# Altium integrated library Silicon Labs Isolation and Power.IntLib: 421 symbols (part 5 of 19)
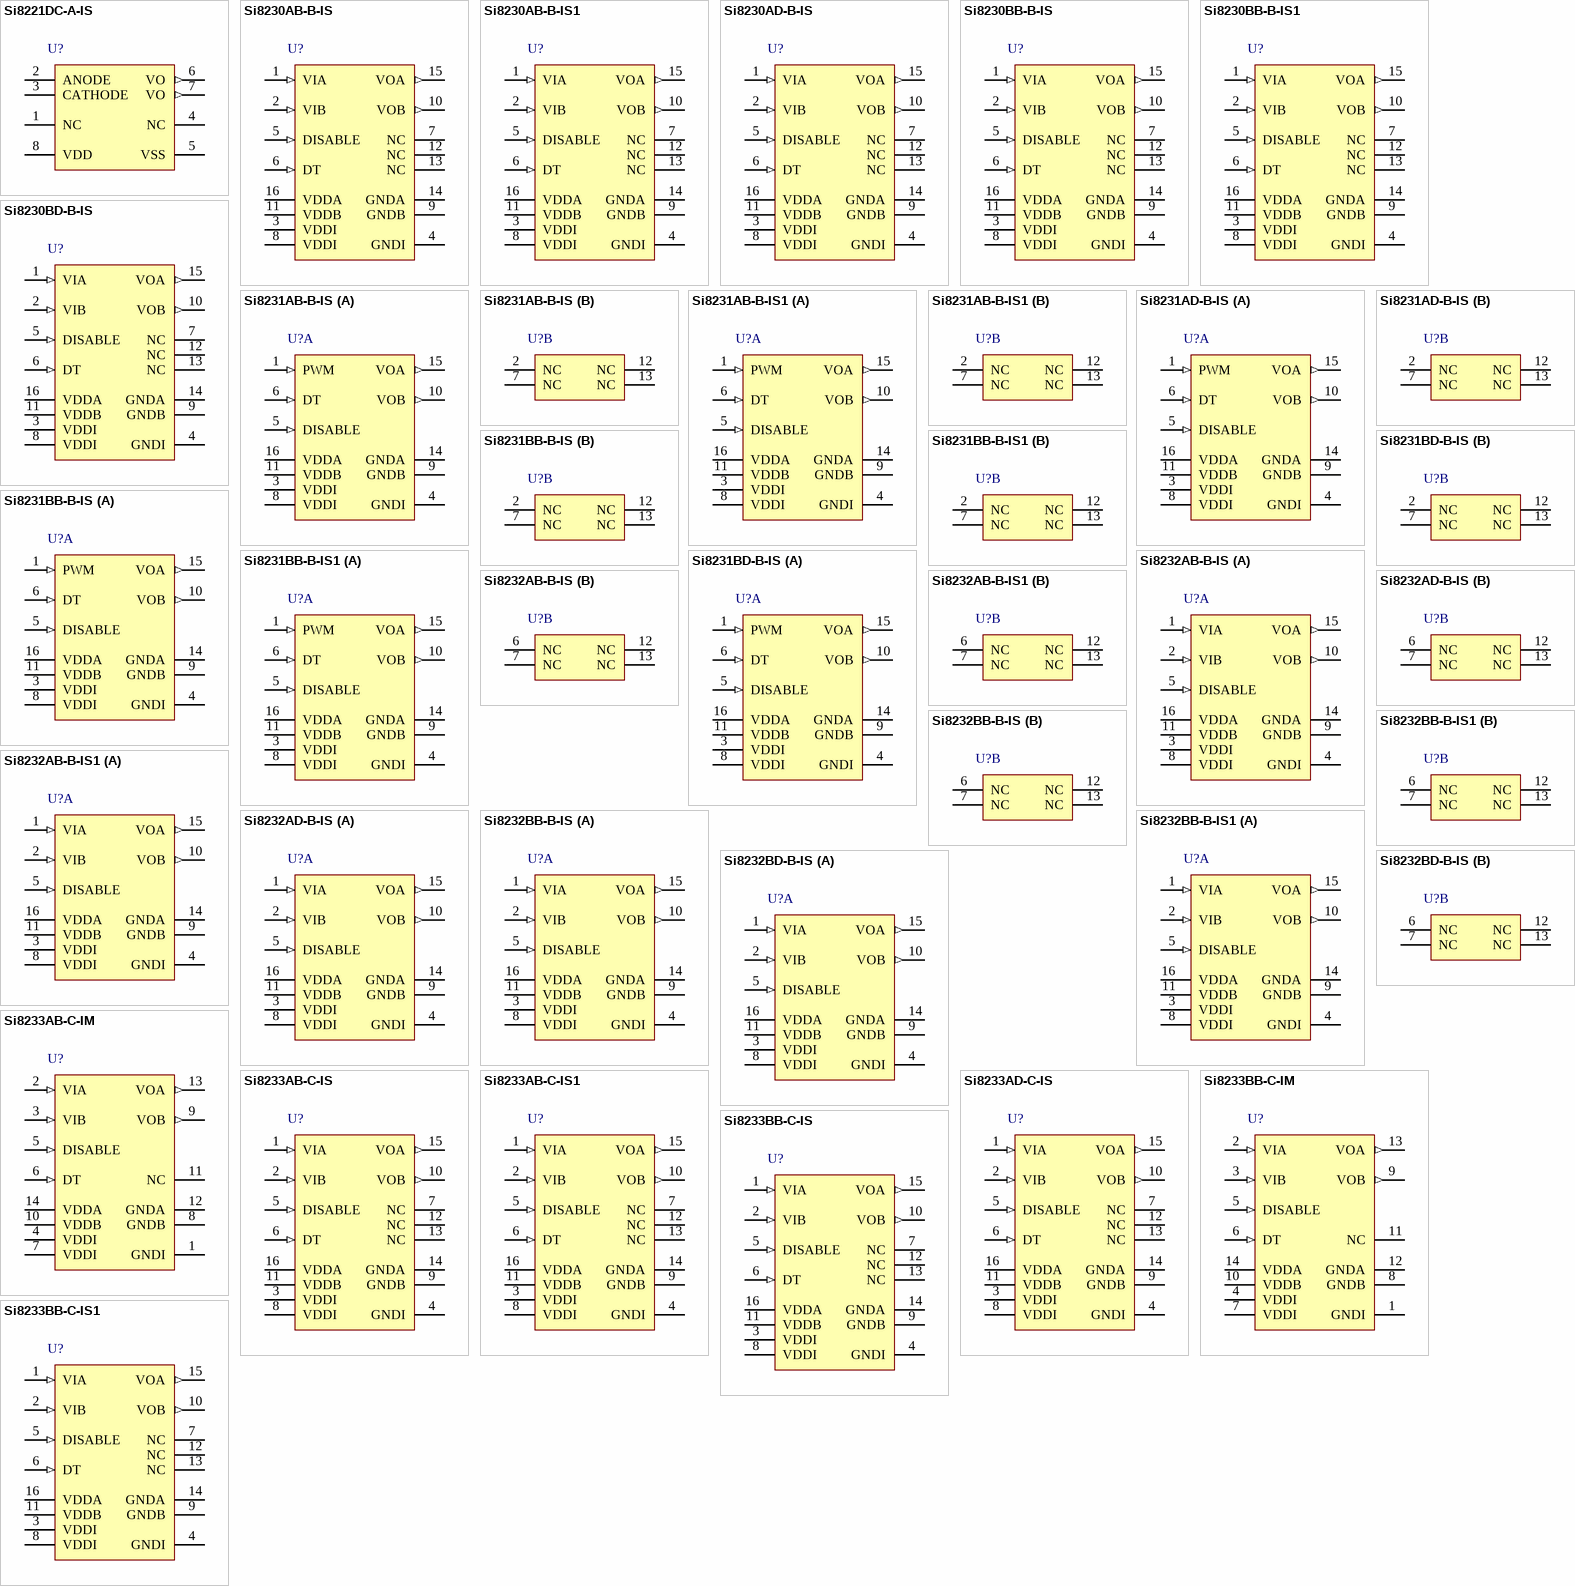
[diagram p18: symbols Si8221DC-A-IS to Si8233BB-C-IS1]

## Si8232BB-B-IS1
designator U?
0.5 A ISOdrivers, 6.5 to 24 V Driver Supply, 2.5 kVRMS Isolation Rating, -40 to 125 degC, 16-pin SOIC; Manufacturer: Silicon Labs; PartNumber: Si8232BB-B-IS1; 10kV surge: FALSE; Input Supply: 4.5 to 5.5 V; Isolation Rating (Input-Output, kVrms): 2.5; Max. Prop. Delay (ns): 60; UVLO Voltage: 8 V; DatasheetVersion: Rev. 1.4; PackageReference: SOIC-16-NB; PackageDescription: 16-Pin Small-Outline Integrated Circuit, Body 9.9 x 3.9 mm, Pitch 1.27 mm; Supplier 1: Digi-Key; Supplier Part Number 1: 336-1909-5-ND; Supplier 2: Mouser; Supplier Part Number 2: 634-SI8232BB-B-IS1; Driver Supply: 6.5 to 24 V; Input VDD: 4.5 to 5.5 V; Overlap Protection & Dead Time Control: FALSE; Sub-Family: ISOdrivers; Mounting Technology: Surface Mount; Code_JEDEC: MS-012; Code_IPC: J-STD-020; ComponentLink1Description: Manufacturer URL; ComponentLink1URL: http://www.silabs.com/; ComponentLink2Description: Datasheet; ComponentLink2URL: https://www.silabs.com/Support%20Documents/TechnicalDocs/Si823x.pdf; ComponentLink3Description: Package Specification; ComponentLink3URL: http://www.silabs.com/Support%20Documents/TechnicalDocs/si2401.pdf
footprint SLAB-SOIC-16-NB_N (SOIC, 16-Leads, Body 9.9x3.9mm, Pitch 1.27mm, IPC Medium Density)
footprint SLAB-SOIC-16-NB_L (SOIC, 16-Leads, Body 9.9x3.9mm, Pitch 1.27mm, IPC High Density)
footprint SLAB-SOIC-16-NB_M (SOIC, 16-Leads, Body 9.9x3.9mm, Pitch 1.27mm, IPC Low Density)
part A pins: 1 VIA (in) "Non-inverting logic input terminal for Driver A.", 2 VIB (in) "Non-inverting logic input terminal for Driver B.", 3 VDDI (power) "Input-side power supply terminal; connect to a source of 4.5 to 5.5 V.", 4 GNDI (power) "Input-side ground terminal.", 5 DISABLE (in) "Device Disable. When high, this input unconditionally drives outputs VOA, VOB LOW. It is strongly recommended that this input be connected to external logic level to avoid erroneous operation due to capacitive noise coupling.", 8 VDDI (power) "Input-side power supply terminal; connect to a source of 4.5 to 5.5 V.", 9 GNDB (power) "Ground terminal for Driver B.", 10 VOB (out) "Driver B output", 11 VDDB (power) "Driver B power supply voltage terminal; connect to a source of 6.5 to 24 V.", 14 GNDA (power) "Ground terminal for Driver A.", 15 VOA (out) "Driver A output", 16 VDDA (power) "Driver A power supply voltage terminal; connect to a source of 6.5 to 24 V."
part B pins: 6 NC "No connection.", 7 NC "No connection.", 12 NC "No connection.", 13 NC "No connection."

## Si8232BD-B-IS
designator U?
0.5 A ISOdrivers, 6.5 to 24 V Driver Supply, 5 kVRMS Isolation Rating, -40 to 125 degC, 16-pin SOIC; Manufacturer: Silicon Labs; PartNumber: Si8232BD-B-IS; 10kV surge: FALSE; Input Supply: 4.5 to 5.5 V; Isolation Rating (Input-Output, kVrms): 5; Max. Prop. Delay (ns): 60; UVLO Voltage: 8 V; DatasheetVersion: Rev. 1.4; PackageReference: SOIC-16-WB; PackageDescription: 16-Pin Wide Body Plastic Small Outline, Body 10.3 x 7.5 mm, Pitch 1.27 mm; Supplier 1: Digi-Key; Supplier Part Number 1: 336-1908-5-ND; Supplier 2: Mouser; Supplier Part Number 2: 634-SI8232BD-B-IS; Driver Supply: 6.5 to 24 V; Input VDD: 4.5 to 5.5 V; Overlap Protection & Dead Time Control: FALSE; Sub-Family: ISOdrivers; Mounting Technology: Surface Mount; Code_JEDEC: MS-013; ComponentLink1Description: Manufacturer URL; ComponentLink1URL: http://www.silabs.com/; ComponentLink2Description: Datasheet; ComponentLink2URL: https://www.silabs.com/Support%20Documents/TechnicalDocs/Si823x.pdf; ComponentLink3Description: Package Specification; ComponentLink3URL: https://www.silabs.com/Support%20Documents/TechnicalDocs/Si823x.pdf
footprint SLAB-SOIC-16-WB_N (SOIC, 16-Leads, Body 10.3x7.5mm, Pitch 1.27mm, IPC Medium Density)
footprint SLAB-SOIC-16-WB_L (SOIC, 16-Leads, Body 10.3x7.5mm, Pitch 1.27mm, IPC High Density)
footprint SLAB-SOIC-16-WB_M (SOIC, 16-Leads, Body 10.3x7.5mm, Pitch 1.27mm, IPC Low Density)
part A pins: 1 VIA (in) "Non-inverting logic input terminal for Driver A.", 2 VIB (in) "Non-inverting logic input terminal for Driver B.", 3 VDDI (power) "Input-side power supply terminal; connect to a source of 4.5 to 5.5 V.", 4 GNDI (power) "Input-side ground terminal.", 5 DISABLE (in) "Device Disable. When high, this input unconditionally drives outputs VOA, VOB LOW. It is strongly recommended that this input be connected to external logic level to avoid erroneous operation due to capacitive noise coupling.", 8 VDDI (power) "Input-side power supply terminal; connect to a source of 4.5 to 5.5 V.", 9 GNDB (power) "Ground terminal for Driver B.", 10 VOB (out) "Driver B output", 11 VDDB (power) "Driver B power supply voltage terminal; connect to a source of 6.5 to 24 V.", 14 GNDA (power) "Ground terminal for Driver A.", 15 VOA (out) "Driver A output", 16 VDDA (power) "Driver A power supply voltage terminal; connect to a source of 6.5 to 24 V."
part B pins: 6 NC "No connection.", 7 NC "No connection.", 12 NC "No connection.", 13 NC "No connection."

## Si8233AB-C-IM
designator U?
4 A ISOdrivers, 6.5 to 24 V Driver Supply, 2.5 kVRMS Isolation Rating, -40 to 125 degC, 14-pin LGA; Manufacturer: Silicon Labs; PartNumber: Si8233AB-C-IM; 10kV surge: FALSE; Input Supply: 4.5 to 5.5 V; Isolation Rating (Input-Output, kVrms): 2.5; Max. Prop. Delay (ns): 60; Overlap Protection & Dead Time Control: TRUE; UVLO Voltage: 5 V; DatasheetVersion: Rev. 1.4; PackageReference: LGA14; PackageDescription: 14-Pin Land Grid Array, Body 5 x 5 mm, Pitch 0.65 mm; Supplier 1: Digi-Key; Supplier Part Number 1: SI8233AB-C-IM-ND; Supplier 2: Mouser; Supplier Part Number 2: 634-SI8233AB-C-IM; Driver Supply: 6.5 to 24 V; Input VDD: 4.5 to 5.5 V; Sub-Family: ISOdrivers; Mounting Technology: Surface Mount; Code_IPC: J-STD-020; ComponentLink1Description: Manufacturer URL; ComponentLink1URL: http://www.silabs.com/; ComponentLink2Description: Datasheet; ComponentLink2URL: https://www.silabs.com/Support%20Documents/TechnicalDocs/Si823x.pdf; ComponentLink3Description: Package Specification; ComponentLink3URL: https://www.silabs.com/Support%20Documents/TechnicalDocs/Si823x.pdf
footprint SLAB-LGA14_V (LGA, 14-Leads, Body 5x5mm, Pitch 0.65mm)
pins: 1 GNDI (power) "Input-side ground terminal.", 2 VIA (in) "Non-inverting logic input terminal for Driver A.", 3 VIB (in) "Non-inverting logic input terminal for Driver B.", 4 VDDI (power) "Input-side power supply terminal; connect to a source of 4.5 to 5.5 V.", 5 DISABLE (in) "Device Disable. When high, this input unconditionally drives outputs VOA, VOB LOW. It is strongly recommended that this input be connected to external logic level to avoid erroneous operation due to capacitive noise coupling.", 6 DT (in) "Dead time programming input. The value of the resistor connected from DT to ground sets the dead time between output transitions of VOA and VOB. Defaults to 1 ns dead time when connected to VDDI or left open (see"3.8. (See Datasheet)", 7 VDDI (power) "Input-side power supply terminal; connect to a source of 4.5 to 5.5 V.", 8 GNDB (power) "Ground terminal for Driver B.", 9 VOB (out) "Driver B output (low-side driver).", 10 VDDB (power) "Driver B power supply voltage terminal; connect to a source of 6.5 to 24 V.", 11 NC "No connection.", 12 GNDA (power) "Ground terminal for Driver A.", 13 VOA (out) "Driver A output (high-side driver).", 14 VDDA (power) "Driver A power supply voltage terminal; connect to a source of 6.5 to 24 V."

## Si8233AB-C-IS
designator U?
4 A ISOdrivers, 6.5 to 24 V Driver Supply, 2.5 kVRMS Isolation Rating, -40 to 125 degC, 16-pin SOIC; Manufacturer: Silicon Labs; PartNumber: Si8233AB-C-IS; 10kV surge: FALSE; Input Supply: 4.5 to 5.5 V; Isolation Rating (Input-Output, kVrms): 2.5; Max. Prop. Delay (ns): 60; Overlap Protection & Dead Time Control: TRUE; UVLO Voltage: 5 V; DatasheetVersion: Rev. 1.4; PackageReference: SOIC-16-WB; PackageDescription: 16-Pin Wide Body Plastic Small Outline, Body 10.3 x 7.5 mm, Pitch 1.27 mm; Supplier 1: Digi-Key; Supplier Part Number 1: SI8233AB-C-IS-ND; Supplier 2: Mouser; Supplier Part Number 2: 634-SI8233AB-C-IS; Driver Supply: 6.5 to 24 V; Input VDD: 4.5 to 5.5 V; Sub-Family: ISOdrivers; Mounting Technology: Surface Mount; Code_JEDEC: MS-013; ComponentLink1Description: Manufacturer URL; ComponentLink1URL: http://www.silabs.com/; ComponentLink2Description: Datasheet; ComponentLink2URL: https://www.silabs.com/Support%20Documents/TechnicalDocs/Si823x.pdf; ComponentLink3Description: Package Specification; ComponentLink3URL: https://www.silabs.com/Support%20Documents/TechnicalDocs/Si823x.pdf
footprint SLAB-SOIC-16-WB_N (SOIC, 16-Leads, Body 10.3x7.5mm, Pitch 1.27mm, IPC Medium Density)
footprint SLAB-SOIC-16-WB_L (SOIC, 16-Leads, Body 10.3x7.5mm, Pitch 1.27mm, IPC High Density)
footprint SLAB-SOIC-16-WB_M (SOIC, 16-Leads, Body 10.3x7.5mm, Pitch 1.27mm, IPC Low Density)
pins: 1 VIA (in) "Non-inverting logic input terminal for Driver A.", 2 VIB (in) "Non-inverting logic input terminal for Driver B.", 3 VDDI (power) "Input-side power supply terminal; connect to a source of 4.5 to 5.5 V.", 4 GNDI (power) "Input-side ground terminal.", 5 DISABLE (in) "Device Disable. When high, this input unconditionally drives outputs VOA, VOB LOW. It is strongly recommended that this input be connected to external logic level to avoid erroneous operation due to capacitive noise coupling.", 6 DT (in) "Dead time programming input. The value of the resistor connected from DT to ground sets the dead time between output transitions of VOA and VOB. Defaults to 1 ns dead time when connected to VDDI or left open (see "3.8. (See Datasheet)", 7 NC "No connection.", 8 VDDI (power) "Input-side power supply terminal; connect to a source of 4.5 to 5.5 V.", 9 GNDB (power) "Ground terminal for Driver B.", 10 VOB (out) "Driver B output", 11 VDDB (power) "Driver B power supply voltage terminal; connect to a source of 6.5 to 24 V.", 12 NC "No connection.", 13 NC "No connection.", 14 GNDA (power) "Ground terminal for Driver A.", 15 VOA (out) "Driver A output", 16 VDDA (power) "Driver A power supply voltage terminal; connect to a source of 6.5 to 24 V."

## Si8233AB-C-IS1
designator U?
4 A ISOdrivers, 6.5 to 24 V Driver Supply, 2.5 kVRMS Isolation Rating, -40 to 125 degC, 16-pin SOIC; Manufacturer: Silicon Labs; PartNumber: Si8233AB-C-IS1; 10kV surge: FALSE; Input Supply: 4.5 to 5.5 V; Isolation Rating (Input-Output, kVrms): 2.5; Max. Prop. Delay (ns): 60; Overlap Protection & Dead Time Control: TRUE; UVLO Voltage: 5 V; DatasheetVersion: Rev. 1.4; PackageReference: SOIC-16-NB; PackageDescription: 16-Pin Small-Outline Integrated Circuit, Body 9.9 x 3.9 mm, Pitch 1.27 mm; Supplier 1: Digi-Key; Supplier Part Number 1: SI8233AB-C-IS1-ND; Supplier 2: Mouser; Supplier Part Number 2: 634-SI8233AB-C-IS1; Driver Supply: 6.5 to 24 V; Input VDD: 4.5 to 5.5 V; Sub-Family: ISOdrivers; Mounting Technology: Surface Mount; Code_JEDEC: MS-012; Code_IPC: J-STD-020; ComponentLink1Description: Manufacturer URL; ComponentLink1URL: http://www.silabs.com/; ComponentLink2Description: Datasheet; ComponentLink2URL: https://www.silabs.com/Support%20Documents/TechnicalDocs/Si823x.pdf; ComponentLink3Description: Package Specification; ComponentLink3URL: http://www.silabs.com/Support%20Documents/TechnicalDocs/si2401.pdf
footprint SLAB-SOIC-16-NB_N (SOIC, 16-Leads, Body 9.9x3.9mm, Pitch 1.27mm, IPC Medium Density)
footprint SLAB-SOIC-16-NB_L (SOIC, 16-Leads, Body 9.9x3.9mm, Pitch 1.27mm, IPC High Density)
footprint SLAB-SOIC-16-NB_M (SOIC, 16-Leads, Body 9.9x3.9mm, Pitch 1.27mm, IPC Low Density)
pins: 1 VIA (in) "Non-inverting logic input terminal for Driver A.", 2 VIB (in) "Non-inverting logic input terminal for Driver B.", 3 VDDI (power) "Input-side power supply terminal; connect to a source of 4.5 to 5.5 V.", 4 GNDI (power) "Input-side ground terminal.", 5 DISABLE (in) "Device Disable. When high, this input unconditionally drives outputs VOA, VOB LOW. It is strongly recommended that this input be connected to external logic level to avoid erroneous operation due to capacitive noise coupling.", 6 DT (in) "Dead time programming input. The value of the resistor connected from DT to ground sets the dead time between output transitions of VOA and VOB. Defaults to 1 ns dead time when connected to VDDI or left open (see "3.8. (See Datasheet)", 7 NC "No connection.", 8 VDDI (power) "Input-side power supply terminal; connect to a source of 4.5 to 5.5 V.", 9 GNDB (power) "Ground terminal for Driver B.", 10 VOB (out) "Driver B output", 11 VDDB (power) "Driver B power supply voltage terminal; connect to a source of 6.5 to 24 V.", 12 NC "No connection.", 13 NC "No connection.", 14 GNDA (power) "Ground terminal for Driver A.", 15 VOA (out) "Driver A output", 16 VDDA (power) "Driver A power supply voltage terminal; connect to a source of 6.5 to 24 V."

## Si8233AD-C-IS
designator U?
4 A ISOdrivers, 6.5 to 24 V Driver Supply, 5 kVRMS Isolation Rating, -40 to 125 degC, 16-pin SOIC; Manufacturer: Silicon Labs; PartNumber: Si8233AD-C-IS; 10kV surge: FALSE; Input Supply: 4.5 to 5.5 V; Isolation Rating (Input-Output, kVrms): 5; Max. Prop. Delay (ns): 60; Overlap Protection & Dead Time Control: TRUE; UVLO Voltage: 5 V; DatasheetVersion: Rev. 1.4; PackageReference: SOIC-16-WB; PackageDescription: 16-Pin Wide Body Plastic Small Outline, Body 10.3 x 7.5 mm, Pitch 1.27 mm; Supplier 1: Digi-Key; Supplier Part Number 1: SI8233AD-C-IS-ND; Supplier 2: Mouser; Supplier Part Number 2: 634-SI8233AD-C-IS; Driver Supply: 6.5 to 24 V; Input VDD: 4.5 to 5.5 V; Sub-Family: ISOdrivers; Mounting Technology: Surface Mount; Code_JEDEC: MS-013; ComponentLink1Description: Manufacturer URL; ComponentLink1URL: http://www.silabs.com/; ComponentLink2Description: Datasheet; ComponentLink2URL: https://www.silabs.com/Support%20Documents/TechnicalDocs/Si823x.pdf; ComponentLink3Description: Package Specification; ComponentLink3URL: https://www.silabs.com/Support%20Documents/TechnicalDocs/Si823x.pdf
footprint SLAB-SOIC-16-WB_N (SOIC, 16-Leads, Body 10.3x7.5mm, Pitch 1.27mm, IPC Medium Density)
footprint SLAB-SOIC-16-WB_L (SOIC, 16-Leads, Body 10.3x7.5mm, Pitch 1.27mm, IPC High Density)
footprint SLAB-SOIC-16-WB_M (SOIC, 16-Leads, Body 10.3x7.5mm, Pitch 1.27mm, IPC Low Density)
pins: 1 VIA (in) "Non-inverting logic input terminal for Driver A.", 2 VIB (in) "Non-inverting logic input terminal for Driver B.", 3 VDDI (power) "Input-side power supply terminal; connect to a source of 4.5 to 5.5 V.", 4 GNDI (power) "Input-side ground terminal.", 5 DISABLE (in) "Device Disable. When high, this input unconditionally drives outputs VOA, VOB LOW. It is strongly recommended that this input be connected to external logic level to avoid erroneous operation due to capacitive noise coupling.", 6 DT (in) "Dead time programming input. The value of the resistor connected from DT to ground sets the dead time between output transitions of VOA and VOB. Defaults to 1 ns dead time when connected to VDDI or left open (see "3.8. (See Datasheet)", 7 NC "No connection.", 8 VDDI (power) "Input-side power supply terminal; connect to a source of 4.5 to 5.5 V.", 9 GNDB (power) "Ground terminal for Driver B.", 10 VOB (out) "Driver B output", 11 VDDB (power) "Driver B power supply voltage terminal; connect to a source of 6.5 to 24 V.", 12 NC "No connection.", 13 NC "No connection.", 14 GNDA (power) "Ground terminal for Driver A.", 15 VOA (out) "Driver A output", 16 VDDA (power) "Driver A power supply voltage terminal; connect to a source of 6.5 to 24 V."

## Si8233BB-C-IM
designator U?
4 A ISOdrivers, 6.5 to 24 V Driver Supply, 2.5 kVRMS Isolation Rating, -40 to 125 degC, 14-pin LGA; Manufacturer: Silicon Labs; PartNumber: Si8233BB-C-IM; 10kV surge: FALSE; Input Supply: 4.5 to 5.5 V; Isolation Rating (Input-Output, kVrms): 2.5; Max. Prop. Delay (ns): 60; Overlap Protection & Dead Time Control: TRUE; UVLO Voltage: 8 V; DatasheetVersion: Rev. 1.4; PackageReference: LGA14; PackageDescription: 14-Pin Land Grid Array, Body 5 x 5 mm, Pitch 0.65 mm; Supplier 1: Digi-Key; Supplier Part Number 1: 336-1907-5-ND; Supplier 2: Mouser; Supplier Part Number 2: 634-SI8233BB-C-IM; Driver Supply: 6.5 to 24 V; Input VDD: 4.5 to 5.5 V; Sub-Family: ISOdrivers; Mounting Technology: Surface Mount; Code_IPC: J-STD-020; ComponentLink1Description: Manufacturer URL; ComponentLink1URL: http://www.silabs.com/; ComponentLink2Description: Datasheet; ComponentLink2URL: https://www.silabs.com/Support%20Documents/TechnicalDocs/Si823x.pdf; ComponentLink3Description: Package Specification; ComponentLink3URL: https://www.silabs.com/Support%20Documents/TechnicalDocs/Si823x.pdf
footprint SLAB-LGA14_V (LGA, 14-Leads, Body 5x5mm, Pitch 0.65mm)
pins: 1 GNDI (power) "Input-side ground terminal.", 2 VIA (in) "Non-inverting logic input terminal for Driver A.", 3 VIB (in) "Non-inverting logic input terminal for Driver B.", 4 VDDI (power) "Input-side power supply terminal; connect to a source of 4.5 to 5.5 V.", 5 DISABLE (in) "Device Disable. When high, this input unconditionally drives outputs VOA, VOB LOW. It is strongly recommended that this input be connected to external logic level to avoid erroneous operation due to capacitive noise coupling.", 6 DT (in) "Dead time programming input. The value of the resistor connected from DT to ground sets the dead time between output transitions of VOA and VOB. Defaults to 1 ns dead time when connected to VDDI or left open (see"3.8. (See Datasheet)", 7 VDDI (power) "Input-side power supply terminal; connect to a source of 4.5 to 5.5 V.", 8 GNDB (power) "Ground terminal for Driver B.", 9 VOB (out) "Driver B output (low-side driver).", 10 VDDB (power) "Driver B power supply voltage terminal; connect to a source of 6.5 to 24 V.", 11 NC "No connection.", 12 GNDA (power) "Ground terminal for Driver A.", 13 VOA (out) "Driver A output (high-side driver).", 14 VDDA (power) "Driver A power supply voltage terminal; connect to a source of 6.5 to 24 V."

## Si8233BB-C-IS
designator U?
4 A ISOdrivers, 6.5 to 24 V Driver Supply, 2.5 kVRMS Isolation Rating, -40 to 125 degC, 16-pin SOIC; Manufacturer: Silicon Labs; PartNumber: Si8233BB-C-IS; 10kV surge: FALSE; Input Supply: 4.5 to 5.5 V; Isolation Rating (Input-Output, kVrms): 2.5; Max. Prop. Delay (ns): 60; Overlap Protection & Dead Time Control: TRUE; UVLO Voltage: 8 V; DatasheetVersion: Rev. 1.4; PackageReference: SOIC-16-WB; PackageDescription: 16-Pin Wide Body Plastic Small Outline, Body 10.3 x 7.5 mm, Pitch 1.27 mm; Supplier 1: Digi-Key; Supplier Part Number 1: 336-1906-5-ND; Supplier 2: Mouser; Supplier Part Number 2: 634-SI8233BB-C-IS; Driver Supply: 6.5 to 24 V; Input VDD: 4.5 to 5.5 V; Sub-Family: ISOdrivers; Mounting Technology: Surface Mount; Code_JEDEC: MS-013; ComponentLink1Description: Manufacturer URL; ComponentLink1URL: http://www.silabs.com/; ComponentLink2Description: Datasheet; ComponentLink2URL: https://www.silabs.com/Support%20Documents/TechnicalDocs/Si823x.pdf; ComponentLink3Description: Package Specification; ComponentLink3URL: https://www.silabs.com/Support%20Documents/TechnicalDocs/Si823x.pdf
footprint SLAB-SOIC-16-WB_N (SOIC, 16-Leads, Body 10.3x7.5mm, Pitch 1.27mm, IPC Medium Density)
footprint SLAB-SOIC-16-WB_L (SOIC, 16-Leads, Body 10.3x7.5mm, Pitch 1.27mm, IPC High Density)
footprint SLAB-SOIC-16-WB_M (SOIC, 16-Leads, Body 10.3x7.5mm, Pitch 1.27mm, IPC Low Density)
pins: 1 VIA (in) "Non-inverting logic input terminal for Driver A.", 2 VIB (in) "Non-inverting logic input terminal for Driver B.", 3 VDDI (power) "Input-side power supply terminal; connect to a source of 4.5 to 5.5 V.", 4 GNDI (power) "Input-side ground terminal.", 5 DISABLE (in) "Device Disable. When high, this input unconditionally drives outputs VOA, VOB LOW. It is strongly recommended that this input be connected to external logic level to avoid erroneous operation due to capacitive noise coupling.", 6 DT (in) "Dead time programming input. The value of the resistor connected from DT to ground sets the dead time between output transitions of VOA and VOB. Defaults to 1 ns dead time when connected to VDDI or left open (see "3.8. (See Datasheet)", 7 NC "No connection.", 8 VDDI (power) "Input-side power supply terminal; connect to a source of 4.5 to 5.5 V.", 9 GNDB (power) "Ground terminal for Driver B.", 10 VOB (out) "Driver B output", 11 VDDB (power) "Driver B power supply voltage terminal; connect to a source of 6.5 to 24 V.", 12 NC "No connection.", 13 NC "No connection.", 14 GNDA (power) "Ground terminal for Driver A.", 15 VOA (out) "Driver A output", 16 VDDA (power) "Driver A power supply voltage terminal; connect to a source of 6.5 to 24 V."

## Si8233BB-C-IS1
designator U?
4 A ISOdrivers, 6.5 to 24 V Driver Supply, 2.5 kVRMS Isolation Rating, -40 to 125 degC, 16-pin SOIC; Manufacturer: Silicon Labs; PartNumber: Si8233BB-C-IS1; 10kV surge: FALSE; Input Supply: 4.5 to 5.5 V; Isolation Rating (Input-Output, kVrms): 2.5; Max. Prop. Delay (ns): 60; Overlap Protection & Dead Time Control: TRUE; UVLO Voltage: 8 V; DatasheetVersion: Rev. 1.4; PackageReference: SOIC-16-NB; PackageDescription: 16-Pin Small-Outline Integrated Circuit, Body 9.9 x 3.9 mm, Pitch 1.27 mm; Supplier 1: Digi-Key; Supplier Part Number 1: 336-1905-5-ND; Supplier 2: Mouser; Supplier Part Number 2: 634-SI8233BB-C-IS1; Driver Supply: 6.5 to 24 V; Input VDD: 4.5 to 5.5 V; Sub-Family: ISOdrivers; Mounting Technology: Surface Mount; Code_JEDEC: MS-012; Code_IPC: J-STD-020; ComponentLink1Description: Manufacturer URL; ComponentLink1URL: http://www.silabs.com/; ComponentLink2Description: Datasheet; ComponentLink2URL: https://www.silabs.com/Support%20Documents/TechnicalDocs/Si823x.pdf; ComponentLink3Description: Package Specification; ComponentLink3URL: http://www.silabs.com/Support%20Documents/TechnicalDocs/si2401.pdf
footprint SLAB-SOIC-16-NB_N (SOIC, 16-Leads, Body 9.9x3.9mm, Pitch 1.27mm, IPC Medium Density)
footprint SLAB-SOIC-16-NB_L (SOIC, 16-Leads, Body 9.9x3.9mm, Pitch 1.27mm, IPC High Density)
footprint SLAB-SOIC-16-NB_M (SOIC, 16-Leads, Body 9.9x3.9mm, Pitch 1.27mm, IPC Low Density)
pins: 1 VIA (in) "Non-inverting logic input terminal for Driver A.", 2 VIB (in) "Non-inverting logic input terminal for Driver B.", 3 VDDI (power) "Input-side power supply terminal; connect to a source of 4.5 to 5.5 V.", 4 GNDI (power) "Input-side ground terminal.", 5 DISABLE (in) "Device Disable. When high, this input unconditionally drives outputs VOA, VOB LOW. It is strongly recommended that this input be connected to external logic level to avoid erroneous operation due to capacitive noise coupling.", 6 DT (in) "Dead time programming input. The value of the resistor connected from DT to ground sets the dead time between output transitions of VOA and VOB. Defaults to 1 ns dead time when connected to VDDI or left open (see "3.8. (See Datasheet)", 7 NC "No connection.", 8 VDDI (power) "Input-side power supply terminal; connect to a source of 4.5 to 5.5 V.", 9 GNDB (power) "Ground terminal for Driver B.", 10 VOB (out) "Driver B output", 11 VDDB (power) "Driver B power supply voltage terminal; connect to a source of 6.5 to 24 V.", 12 NC "No connection.", 13 NC "No connection.", 14 GNDA (power) "Ground terminal for Driver A.", 15 VOA (out) "Driver A output", 16 VDDA (power) "Driver A power supply voltage terminal; connect to a source of 6.5 to 24 V."

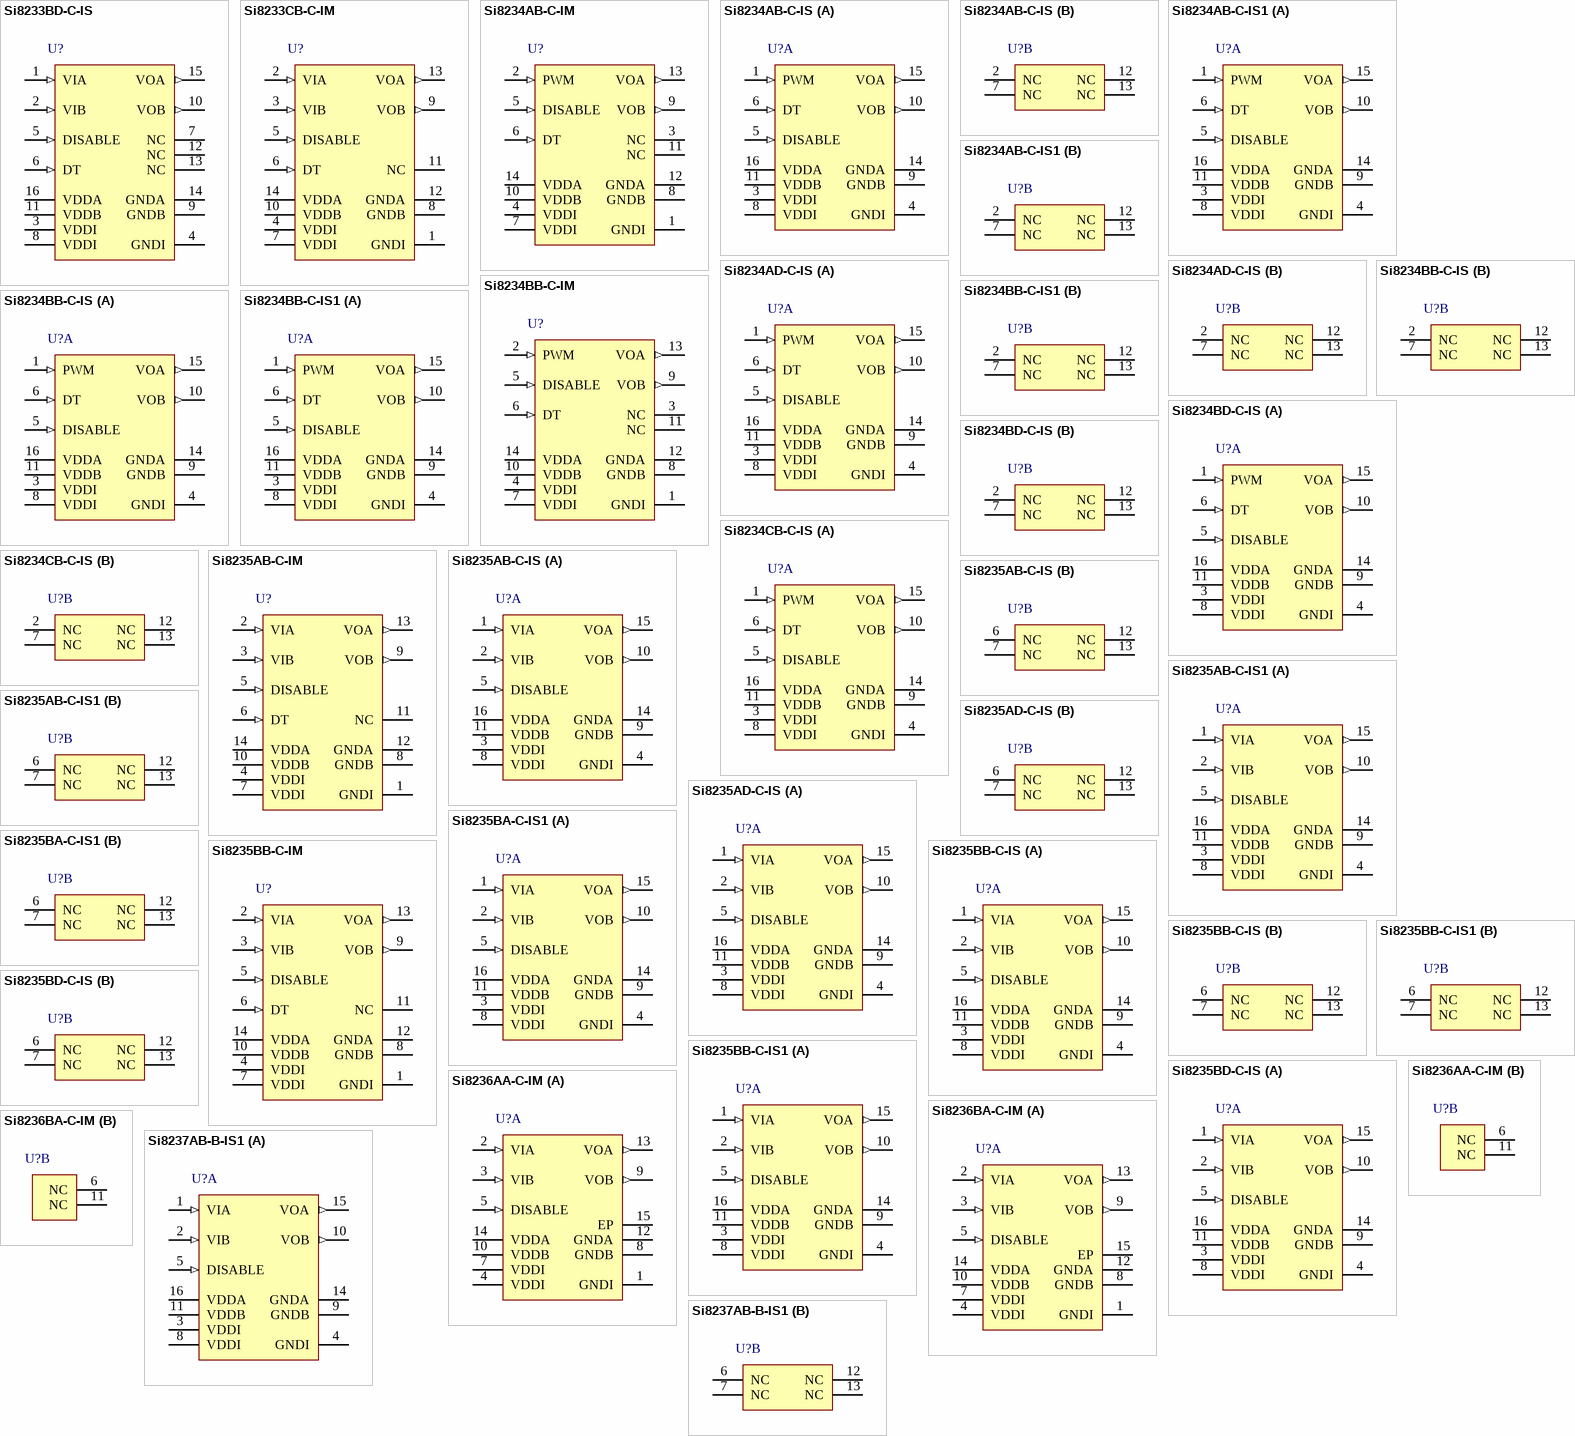
[diagram p3: symbols Si8233BD-C-IS to Si8237AB-B-IS1]

## Si8233BD-C-IS
designator U?
4 A ISOdrivers, 6.5 to 24 V Driver Supply, 5 kVRMS Isolation Rating, -40 to 125 degC, 16-pin SOIC; Manufacturer: Silicon Labs; PartNumber: Si8233BD-C-IS; 10kV surge: FALSE; Input Supply: 4.5 to 5.5 V; Isolation Rating (Input-Output, kVrms): 5; Max. Prop. Delay (ns): 60; Overlap Protection & Dead Time Control: TRUE; UVLO Voltage: 8 V; DatasheetVersion: Rev. 1.4; PackageReference: SOIC-16-WB; PackageDescription: 16-Pin Wide Body Plastic Small Outline, Body 10.3 x 7.5 mm, Pitch 1.27 mm; Supplier 1: Digi-Key; Supplier Part Number 1: 336-1904-5-ND; Supplier 2: Mouser; Supplier Part Number 2: 634-SI8233BD-C-IS; Driver Supply: 6.5 to 24 V; Input VDD: 4.5 to 5.5 V; Sub-Family: ISOdrivers; Mounting Technology: Surface Mount; Code_JEDEC: MS-013; ComponentLink1Description: Manufacturer URL; ComponentLink1URL: http://www.silabs.com/; ComponentLink2Description: Datasheet; ComponentLink2URL: https://www.silabs.com/Support%20Documents/TechnicalDocs/Si823x.pdf; ComponentLink3Description: Package Specification; ComponentLink3URL: https://www.silabs.com/Support%20Documents/TechnicalDocs/Si823x.pdf
footprint SLAB-SOIC-16-WB_N (SOIC, 16-Leads, Body 10.3x7.5mm, Pitch 1.27mm, IPC Medium Density)
footprint SLAB-SOIC-16-WB_L (SOIC, 16-Leads, Body 10.3x7.5mm, Pitch 1.27mm, IPC High Density)
footprint SLAB-SOIC-16-WB_M (SOIC, 16-Leads, Body 10.3x7.5mm, Pitch 1.27mm, IPC Low Density)
pins: 1 VIA (in) "Non-inverting logic input terminal for Driver A.", 2 VIB (in) "Non-inverting logic input terminal for Driver B.", 3 VDDI (power) "Input-side power supply terminal; connect to a source of 4.5 to 5.5 V.", 4 GNDI (power) "Input-side ground terminal.", 5 DISABLE (in) "Device Disable. When high, this input unconditionally drives outputs VOA, VOB LOW. It is strongly recommended that this input be connected to external logic level to avoid erroneous operation due to capacitive noise coupling.", 6 DT (in) "Dead time programming input. The value of the resistor connected from DT to ground sets the dead time between output transitions of VOA and VOB. Defaults to 1 ns dead time when connected to VDDI or left open (see "3.8. (See Datasheet)", 7 NC "No connection.", 8 VDDI (power) "Input-side power supply terminal; connect to a source of 4.5 to 5.5 V.", 9 GNDB (power) "Ground terminal for Driver B.", 10 VOB (out) "Driver B output", 11 VDDB (power) "Driver B power supply voltage terminal; connect to a source of 6.5 to 24 V.", 12 NC "No connection.", 13 NC "No connection.", 14 GNDA (power) "Ground terminal for Driver A.", 15 VOA (out) "Driver A output", 16 VDDA (power) "Driver A power supply voltage terminal; connect to a source of 6.5 to 24 V."

## Si8233CB-C-IM
designator U?
4 A ISOdrivers, 6.5 to 24 V Driver Supply, 2.5 kVRMS Isolation Rating, -40 to 125 degC, 14-pin LGA; Manufacturer: Silicon Labs; PartNumber: Si8233CB-C-IM; 10kV surge: FALSE; Input Supply: 4.5 to 5.5 V; Isolation Rating (Input-Output, kVrms): 2.5; Max. Prop. Delay (ns): 60; Overlap Protection & Dead Time Control: TRUE; UVLO Voltage: 10 V; DatasheetVersion: Rev. 1.4; PackageReference: LGA14; PackageDescription: 14-Pin Land Grid Array, Body 5 x 5 mm, Pitch 0.65 mm; Supplier 1: Digi-Key; Supplier Part Number 1: SI8233CB-C-IM-ND; Supplier 2: Mouser; Supplier Part Number 2: 634-SI8233CB-C-IM; Driver Supply: 6.5 to 24 V; Input VDD: 4.5 to 5.5 V; Sub-Family: ISOdrivers; Mounting Technology: Surface Mount; Code_IPC: J-STD-020; ComponentLink1Description: Manufacturer URL; ComponentLink1URL: http://www.silabs.com/; ComponentLink2Description: Datasheet; ComponentLink2URL: https://www.silabs.com/Support%20Documents/TechnicalDocs/Si823x.pdf; ComponentLink3Description: Package Specification; ComponentLink3URL: https://www.silabs.com/Support%20Documents/TechnicalDocs/Si823x.pdf
footprint SLAB-LGA14_V (LGA, 14-Leads, Body 5x5mm, Pitch 0.65mm)
pins: 1 GNDI (power) "Input-side ground terminal.", 2 VIA (in) "Non-inverting logic input terminal for Driver A.", 3 VIB (in) "Non-inverting logic input terminal for Driver B.", 4 VDDI (power) "Input-side power supply terminal; connect to a source of 4.5 to 5.5 V.", 5 DISABLE (in) "Device Disable. When high, this input unconditionally drives outputs VOA, VOB LOW. It is strongly recommended that this input be connected to external logic level to avoid erroneous operation due to capacitive noise coupling.", 6 DT (in) "Dead time programming input. The value of the resistor connected from DT to ground sets the dead time between output transitions of VOA and VOB. Defaults to 1 ns dead time when connected to VDDI or left open (see"3.8. (See Datasheet)", 7 VDDI (power) "Input-side power supply terminal; connect to a source of 4.5 to 5.5 V.", 8 GNDB (power) "Ground terminal for Driver B.", 9 VOB (out) "Driver B output (low-side driver).", 10 VDDB (power) "Driver B power supply voltage terminal; connect to a source of 6.5 to 24 V.", 11 NC "No connection.", 12 GNDA (power) "Ground terminal for Driver A.", 13 VOA (out) "Driver A output (high-side driver).", 14 VDDA (power) "Driver A power supply voltage terminal; connect to a source of 6.5 to 24 V."

## Si8234AB-C-IM
designator U?
4 A ISOdrivers, 6.5 to 24 V Driver Supply, 2.5 kVRMS Isolation Rating, -40 to 125 degC, 14-pin LGA; Manufacturer: Silicon Labs; PartNumber: Si8234AB-C-IM; 10kV surge: FALSE; Input Supply: 4.5 to 5.5 V; Isolation Rating (Input-Output, kVrms): 2.5; Max. Prop. Delay (ns): 60; Overlap Protection & Dead Time Control: TRUE; UVLO Voltage: 5 V; DatasheetVersion: Rev. 1.4; PackageReference: LGA14; PackageDescription: 14-Pin Land Grid Array, Body 5 x 5 mm, Pitch 0.65 mm; Supplier 1: Digi-Key; Supplier Part Number 1: SI8234AB-C-IM-ND; Supplier 2: Mouser; Supplier Part Number 2: 634-SI8234AB-C-IM; Driver Supply: 6.5 to 24 V; Input VDD: 4.5 to 5.5 V; Sub-Family: ISOdrivers; Mounting Technology: Surface Mount; Code_IPC: J-STD-020; ComponentLink1Description: Manufacturer URL; ComponentLink1URL: http://www.silabs.com/; ComponentLink2Description: Datasheet; ComponentLink2URL: https://www.silabs.com/Support%20Documents/TechnicalDocs/Si823x.pdf; ComponentLink3Description: Package Specification; ComponentLink3URL: https://www.silabs.com/Support%20Documents/TechnicalDocs/Si823x.pdf
footprint SLAB-LGA14_V (LGA, 14-Leads, Body 5x5mm, Pitch 0.65mm)
pins: 1 GNDI (power) "Input-side ground terminal.", 2 PWM (in) "PWM input.", 3 NC "No connection.", 4 VDDI (power) "Input-side power supply terminal; connect to a source of 4.5 to 5.5 V.", 5 DISABLE (in) "Device Disable. When high, this input unconditionally drives outputs VOA, VOB LOW. It is strongly recommended that this input be connected to external logic level to avoid erroneous operation due to capacitive noise coupling.", 6 DT (in) "Dead time programming input. The value of the resistor connected from DT to ground sets the dead time between output transitions of VOA and VOB. Defaults to 1 ns dead time when connected to VDDI or left open (see "3.8. (See Datasheet)", 7 VDDI (power) "Input-side power supply terminal; connect to a source of 4.5 to 5.5 V.", 8 GNDB (power) "Ground terminal for Driver B.", 9 VOB (out) "Driver B output (low-side driver).", 10 VDDB (power) "Driver B power supply voltage terminal; connect to a source of 6.5 to 24 V.", 11 NC "No connection.", 12 GNDA (power) "Ground terminal for Driver A.", 13 VOA (out) "Driver A output (high-side driver).", 14 VDDA (power) "Driver A power supply voltage terminal; connect to a source of 6.5 to 24 V."

## Si8234AB-C-IS
designator U?
4 A ISOdrivers, 6.5 to 24 V Driver Supply, 2.5 kVRMS Isolation Rating, -40 to 125 degC, 16-pin SOIC; Manufacturer: Silicon Labs; PartNumber: Si8234AB-C-IS; 10kV surge: FALSE; Input Supply: 4.5 to 5.5 V; Isolation Rating (Input-Output, kVrms): 2.5; Max. Prop. Delay (ns): 60; Overlap Protection & Dead Time Control: TRUE; UVLO Voltage: 5 V; DatasheetVersion: Rev. 1.4; PackageReference: SOIC-16-WB; PackageDescription: 16-Pin Wide Body Plastic Small Outline, Body 10.3 x 7.5 mm, Pitch 1.27 mm; Supplier 1: Digi-Key; Supplier Part Number 1: SI8234AB-C-IS-ND; Supplier 2: Mouser; Supplier Part Number 2: 634-SI8234AB-C-IS; Driver Supply: 6.5 to 24 V; Input VDD: 4.5 to 5.5 V; Sub-Family: ISOdrivers; Mounting Technology: Surface Mount; Code_JEDEC: MS-013; ComponentLink1Description: Manufacturer URL; ComponentLink1URL: http://www.silabs.com/; ComponentLink2Description: Datasheet; ComponentLink2URL: https://www.silabs.com/Support%20Documents/TechnicalDocs/Si823x.pdf; ComponentLink3Description: Package Specification; ComponentLink3URL: https://www.silabs.com/Support%20Documents/TechnicalDocs/Si823x.pdf
footprint SLAB-SOIC-16-WB_N (SOIC, 16-Leads, Body 10.3x7.5mm, Pitch 1.27mm, IPC Medium Density)
footprint SLAB-SOIC-16-WB_L (SOIC, 16-Leads, Body 10.3x7.5mm, Pitch 1.27mm, IPC High Density)
footprint SLAB-SOIC-16-WB_M (SOIC, 16-Leads, Body 10.3x7.5mm, Pitch 1.27mm, IPC Low Density)
part A pins: 1 PWM (in) "PWM input.", 3 VDDI (power) "Input-side power supply terminal; connect to a source of 4.5 to 5.5 V.", 4 GNDI (power) "Input-side ground terminal.", 5 DISABLE (in) "Device Disable. When high, this input unconditionally drives outputs VOA, VOB LOW. It is strongly recommended that this input be connected to external logic level to avoid erroneous operation due to capacitive noise coupling.", 6 DT (in) "Dead time programming input. The value of the resistor connected from DT to ground sets the dead time between output transitions of VOA and VOB. Defaults to 1 ns dead time when connected to VDDI or left open (see "3.8. (See Datasheet)", 8 VDDI (power) "Input-side power supply terminal; connect to a source of 4.5 to 5.5 V.", 9 GNDB (power) "Ground terminal for Driver B.", 10 VOB (out) "Driver B output (low-side driver).", 11 VDDB (power) "Driver B power supply voltage terminal; connect to a source of 6.5 to 24 V.", 14 GNDA (power) "Ground terminal for Driver A.", 15 VOA (out) "Driver A output (high-side driver).", 16 VDDA (power) "Driver A power supply voltage terminal; connect to a source of 6.5 to 24 V."
part B pins: 2 NC "No connection.", 7 NC "No connection.", 12 NC "No connection.", 13 NC "No connection."

## Si8234AB-C-IS1
designator U?
4 A ISOdrivers, 6.5 to 24 V Driver Supply, 2.5 kVRMS Isolation Rating, -40 to 125 degC, 16-pin SOIC; Manufacturer: Silicon Labs; PartNumber: Si8234AB-C-IS1; 10kV surge: FALSE; Input Supply: 4.5 to 5.5 V; Isolation Rating (Input-Output, kVrms): 2.5; Max. Prop. Delay (ns): 60; Overlap Protection & Dead Time Control: TRUE; UVLO Voltage: 5 V; DatasheetVersion: Rev. 1.4; PackageReference: SOIC-16-NB; PackageDescription: 16-Pin Small-Outline Integrated Circuit, Body 9.9 x 3.9 mm, Pitch 1.27 mm; Supplier 1: Digi-Key; Supplier Part Number 1: SI8234AB-C-IS1-ND; Supplier 2: Mouser; Supplier Part Number 2: 634-SI8234AB-C-IS1; Driver Supply: 6.5 to 24 V; Input VDD: 4.5 to 5.5 V; Sub-Family: ISOdrivers; Mounting Technology: Surface Mount; Code_JEDEC: MS-012; Code_IPC: J-STD-020; ComponentLink1Description: Manufacturer URL; ComponentLink1URL: http://www.silabs.com/; ComponentLink2Description: Datasheet; ComponentLink2URL: https://www.silabs.com/Support%20Documents/TechnicalDocs/Si823x.pdf; ComponentLink3Description: Package Specification; ComponentLink3URL: http://www.silabs.com/Support%20Documents/TechnicalDocs/si2401.pdf
footprint SLAB-SOIC-16-NB_N (SOIC, 16-Leads, Body 9.9x3.9mm, Pitch 1.27mm, IPC Medium Density)
footprint SLAB-SOIC-16-NB_L (SOIC, 16-Leads, Body 9.9x3.9mm, Pitch 1.27mm, IPC High Density)
footprint SLAB-SOIC-16-NB_M (SOIC, 16-Leads, Body 9.9x3.9mm, Pitch 1.27mm, IPC Low Density)
part A pins: 1 PWM (in) "PWM input.", 3 VDDI (power) "Input-side power supply terminal; connect to a source of 4.5 to 5.5 V.", 4 GNDI (power) "Input-side ground terminal.", 5 DISABLE (in) "Device Disable. When high, this input unconditionally drives outputs VOA, VOB LOW. It is strongly recommended that this input be connected to external logic level to avoid erroneous operation due to capacitive noise coupling.", 6 DT (in) "Dead time programming input. The value of the resistor connected from DT to ground sets the dead time between output transitions of VOA and VOB. Defaults to 1 ns dead time when connected to VDDI or left open (see "3.8. (See Datasheet)", 8 VDDI (power) "Input-side power supply terminal; connect to a source of 4.5 to 5.5 V.", 9 GNDB (power) "Ground terminal for Driver B.", 10 VOB (out) "Driver B output (low-side driver).", 11 VDDB (power) "Driver B power supply voltage terminal; connect to a source of 6.5 to 24 V.", 14 GNDA (power) "Ground terminal for Driver A.", 15 VOA (out) "Driver A output (high-side driver).", 16 VDDA (power) "Driver A power supply voltage terminal; connect to a source of 6.5 to 24 V."
part B pins: 2 NC "No connection.", 7 NC "No connection.", 12 NC "No connection.", 13 NC "No connection."

## Si8234AD-C-IS
designator U?
4 A ISOdrivers, 6.5 to 24 V Driver Supply, 5 kVRMS Isolation Rating, -40 to 125 degC, 16-pin SOIC; Manufacturer: Silicon Labs; PartNumber: Si8234AD-C-IS; 10kV surge: FALSE; Input Supply: 4.5 to 5.5 V; Isolation Rating (Input-Output, kVrms): 5; Max. Prop. Delay (ns): 60; Overlap Protection & Dead Time Control: TRUE; UVLO Voltage: 5 V; DatasheetVersion: Rev. 1.4; PackageReference: SOIC-16-WB; PackageDescription: 16-Pin Wide Body Plastic Small Outline, Body 10.3 x 7.5 mm, Pitch 1.27 mm; Supplier 1: Digi-Key; Supplier Part Number 1: SI8234AD-C-IS-ND; Supplier 2: Mouser; Supplier Part Number 2: 634-SI8234AD-C-IS; Driver Supply: 6.5 to 24 V; Input VDD: 4.5 to 5.5 V; Sub-Family: ISOdrivers; Mounting Technology: Surface Mount; Code_JEDEC: MS-013; ComponentLink1Description: Manufacturer URL; ComponentLink1URL: http://www.silabs.com/; ComponentLink2Description: Datasheet; ComponentLink2URL: https://www.silabs.com/Support%20Documents/TechnicalDocs/Si823x.pdf; ComponentLink3Description: Package Specification; ComponentLink3URL: https://www.silabs.com/Support%20Documents/TechnicalDocs/Si823x.pdf
footprint SLAB-SOIC-16-WB_N (SOIC, 16-Leads, Body 10.3x7.5mm, Pitch 1.27mm, IPC Medium Density)
footprint SLAB-SOIC-16-WB_L (SOIC, 16-Leads, Body 10.3x7.5mm, Pitch 1.27mm, IPC High Density)
footprint SLAB-SOIC-16-WB_M (SOIC, 16-Leads, Body 10.3x7.5mm, Pitch 1.27mm, IPC Low Density)
part A pins: 1 PWM (in) "PWM input.", 3 VDDI (power) "Input-side power supply terminal; connect to a source of 4.5 to 5.5 V.", 4 GNDI (power) "Input-side ground terminal.", 5 DISABLE (in) "Device Disable. When high, this input unconditionally drives outputs VOA, VOB LOW. It is strongly recommended that this input be connected to external logic level to avoid erroneous operation due to capacitive noise coupling.", 6 DT (in) "Dead time programming input. The value of the resistor connected from DT to ground sets the dead time between output transitions of VOA and VOB. Defaults to 1 ns dead time when connected to VDDI or left open (see "3.8. (See Datasheet)", 8 VDDI (power) "Input-side power supply terminal; connect to a source of 4.5 to 5.5 V.", 9 GNDB (power) "Ground terminal for Driver B.", 10 VOB (out) "Driver B output (low-side driver).", 11 VDDB (power) "Driver B power supply voltage terminal; connect to a source of 6.5 to 24 V.", 14 GNDA (power) "Ground terminal for Driver A.", 15 VOA (out) "Driver A output (high-side driver).", 16 VDDA (power) "Driver A power supply voltage terminal; connect to a source of 6.5 to 24 V."
part B pins: 2 NC "No connection.", 7 NC "No connection.", 12 NC "No connection.", 13 NC "No connection."

## Si8234BB-C-IM
designator U?
4 A ISOdrivers, 6.5 to 24 V Driver Supply, 2.5 kVRMS Isolation Rating, -40 to 125 degC, 14-pin LGA; Manufacturer: Silicon Labs; PartNumber: Si8234BB-C-IM; 10kV surge: FALSE; Input Supply: 4.5 to 5.5 V; Isolation Rating (Input-Output, kVrms): 2.5; Max. Prop. Delay (ns): 60; Overlap Protection & Dead Time Control: TRUE; UVLO Voltage: 8 V; DatasheetVersion: Rev. 1.4; PackageReference: LGA14; PackageDescription: 14-Pin Land Grid Array, Body 5 x 5 mm, Pitch 0.65 mm; Supplier 1: Digi-Key; Supplier Part Number 1: 336-1903-5-ND; Supplier 2: Mouser; Supplier Part Number 2: 634-SI8234BB-C-IM; Driver Supply: 6.5 to 24 V; Input VDD: 4.5 to 5.5 V; Sub-Family: ISOdrivers; Mounting Technology: Surface Mount; Code_IPC: J-STD-020; ComponentLink1Description: Manufacturer URL; ComponentLink1URL: http://www.silabs.com/; ComponentLink2Description: Datasheet; ComponentLink2URL: https://www.silabs.com/Support%20Documents/TechnicalDocs/Si823x.pdf; ComponentLink3Description: Package Specification; ComponentLink3URL: https://www.silabs.com/Support%20Documents/TechnicalDocs/Si823x.pdf
footprint SLAB-LGA14_V (LGA, 14-Leads, Body 5x5mm, Pitch 0.65mm)
pins: 1 GNDI (power) "Input-side ground terminal.", 2 PWM (in) "PWM input.", 3 NC "No connection.", 4 VDDI (power) "Input-side power supply terminal; connect to a source of 4.5 to 5.5 V.", 5 DISABLE (in) "Device Disable. When high, this input unconditionally drives outputs VOA, VOB LOW. It is strongly recommended that this input be connected to external logic level to avoid erroneous operation due to capacitive noise coupling.", 6 DT (in) "Dead time programming input. The value of the resistor connected from DT to ground sets the dead time between output transitions of VOA and VOB. Defaults to 1 ns dead time when connected to VDDI or left open (see "3.8. (See Datasheet)", 7 VDDI (power) "Input-side power supply terminal; connect to a source of 4.5 to 5.5 V.", 8 GNDB (power) "Ground terminal for Driver B.", 9 VOB (out) "Driver B output (low-side driver).", 10 VDDB (power) "Driver B power supply voltage terminal; connect to a source of 6.5 to 24 V.", 11 NC "No connection.", 12 GNDA (power) "Ground terminal for Driver A.", 13 VOA (out) "Driver A output (high-side driver).", 14 VDDA (power) "Driver A power supply voltage terminal; connect to a source of 6.5 to 24 V."

## Si8234BB-C-IS
designator U?
4 A ISOdrivers, 6.5 to 24 V Driver Supply, 2.5 kVRMS Isolation Rating, -40 to 125 degC, 16-pin SOIC; Manufacturer: Silicon Labs; PartNumber: Si8234BB-C-IS; 10kV surge: FALSE; Input Supply: 4.5 to 5.5 V; Isolation Rating (Input-Output, kVrms): 2.5; Max. Prop. Delay (ns): 60; Overlap Protection & Dead Time Control: TRUE; UVLO Voltage: 8 V; DatasheetVersion: Rev. 1.4; PackageReference: SOIC-16-WB; PackageDescription: 16-Pin Wide Body Plastic Small Outline, Body 10.3 x 7.5 mm, Pitch 1.27 mm; Supplier 1: Digi-Key; Supplier Part Number 1: 336-1902-5-ND; Supplier 2: Mouser; Supplier Part Number 2: 634-SI8234BB-C-IS; Driver Supply: 6.5 to 24 V; Input VDD: 4.5 to 5.5 V; Sub-Family: ISOdrivers; Mounting Technology: Surface Mount; Code_JEDEC: MS-013; ComponentLink1Description: Manufacturer URL; ComponentLink1URL: http://www.silabs.com/; ComponentLink2Description: Datasheet; ComponentLink2URL: https://www.silabs.com/Support%20Documents/TechnicalDocs/Si823x.pdf; ComponentLink3Description: Package Specification; ComponentLink3URL: https://www.silabs.com/Support%20Documents/TechnicalDocs/Si823x.pdf
footprint SLAB-SOIC-16-WB_N (SOIC, 16-Leads, Body 10.3x7.5mm, Pitch 1.27mm, IPC Medium Density)
footprint SLAB-SOIC-16-WB_L (SOIC, 16-Leads, Body 10.3x7.5mm, Pitch 1.27mm, IPC High Density)
footprint SLAB-SOIC-16-WB_M (SOIC, 16-Leads, Body 10.3x7.5mm, Pitch 1.27mm, IPC Low Density)
part A pins: 1 PWM (in) "PWM input.", 3 VDDI (power) "Input-side power supply terminal; connect to a source of 4.5 to 5.5 V.", 4 GNDI (power) "Input-side ground terminal.", 5 DISABLE (in) "Device Disable. When high, this input unconditionally drives outputs VOA, VOB LOW. It is strongly recommended that this input be connected to external logic level to avoid erroneous operation due to capacitive noise coupling.", 6 DT (in) "Dead time programming input. The value of the resistor connected from DT to ground sets the dead time between output transitions of VOA and VOB. Defaults to 1 ns dead time when connected to VDDI or left open (see "3.8. (See Datasheet)", 8 VDDI (power) "Input-side power supply terminal; connect to a source of 4.5 to 5.5 V.", 9 GNDB (power) "Ground terminal for Driver B.", 10 VOB (out) "Driver B output (low-side driver).", 11 VDDB (power) "Driver B power supply voltage terminal; connect to a source of 6.5 to 24 V.", 14 GNDA (power) "Ground terminal for Driver A.", 15 VOA (out) "Driver A output (high-side driver).", 16 VDDA (power) "Driver A power supply voltage terminal; connect to a source of 6.5 to 24 V."
part B pins: 2 NC "No connection.", 7 NC "No connection.", 12 NC "No connection.", 13 NC "No connection."

## Si8234BB-C-IS1
designator U?
4 A ISOdrivers, 6.5 to 24 V Driver Supply, 2.5 kVRMS Isolation Rating, -40 to 125 degC, 16-pin SOIC; Manufacturer: Silicon Labs; PartNumber: Si8234BB-C-IS1; 10kV surge: FALSE; Input Supply: 4.5 to 5.5 V; Isolation Rating (Input-Output, kVrms): 2.5; Max. Prop. Delay (ns): 60; Overlap Protection & Dead Time Control: TRUE; UVLO Voltage: 8 V; DatasheetVersion: Rev. 1.4; PackageReference: SOIC-16-NB; PackageDescription: 16-Pin Small-Outline Integrated Circuit, Body 9.9 x 3.9 mm, Pitch 1.27 mm; Supplier 1: Digi-Key; Supplier Part Number 1: 336-1901-5-ND; Supplier 2: Mouser; Supplier Part Number 2: 634-SI8234BB-C-IS1; Driver Supply: 6.5 to 24 V; Input VDD: 4.5 to 5.5 V; Sub-Family: ISOdrivers; Mounting Technology: Surface Mount; Code_JEDEC: MS-012; Code_IPC: J-STD-020; ComponentLink1Description: Manufacturer URL; ComponentLink1URL: http://www.silabs.com/; ComponentLink2Description: Datasheet; ComponentLink2URL: https://www.silabs.com/Support%20Documents/TechnicalDocs/Si823x.pdf; ComponentLink3Description: Package Specification; ComponentLink3URL: http://www.silabs.com/Support%20Documents/TechnicalDocs/si2401.pdf
footprint SLAB-SOIC-16-NB_N (SOIC, 16-Leads, Body 9.9x3.9mm, Pitch 1.27mm, IPC Medium Density)
footprint SLAB-SOIC-16-NB_L (SOIC, 16-Leads, Body 9.9x3.9mm, Pitch 1.27mm, IPC High Density)
footprint SLAB-SOIC-16-NB_M (SOIC, 16-Leads, Body 9.9x3.9mm, Pitch 1.27mm, IPC Low Density)
part A pins: 1 PWM (in) "PWM input.", 3 VDDI (power) "Input-side power supply terminal; connect to a source of 4.5 to 5.5 V.", 4 GNDI (power) "Input-side ground terminal.", 5 DISABLE (in) "Device Disable. When high, this input unconditionally drives outputs VOA, VOB LOW. It is strongly recommended that this input be connected to external logic level to avoid erroneous operation due to capacitive noise coupling.", 6 DT (in) "Dead time programming input. The value of the resistor connected from DT to ground sets the dead time between output transitions of VOA and VOB. Defaults to 1 ns dead time when connected to VDDI or left open (see "3.8. (See Datasheet)", 8 VDDI (power) "Input-side power supply terminal; connect to a source of 4.5 to 5.5 V.", 9 GNDB (power) "Ground terminal for Driver B.", 10 VOB (out) "Driver B output (low-side driver).", 11 VDDB (power) "Driver B power supply voltage terminal; connect to a source of 6.5 to 24 V.", 14 GNDA (power) "Ground terminal for Driver A.", 15 VOA (out) "Driver A output (high-side driver).", 16 VDDA (power) "Driver A power supply voltage terminal; connect to a source of 6.5 to 24 V."
part B pins: 2 NC "No connection.", 7 NC "No connection.", 12 NC "No connection.", 13 NC "No connection."

## Si8234BD-C-IS
designator U?
4 A ISOdrivers, 6.5 to 24 V Driver Supply, 5 kVRMS Isolation Rating, -40 to 125 degC, 16-pin SOIC; Manufacturer: Silicon Labs; PartNumber: Si8234BD-C-IS; 10kV surge: FALSE; Input Supply: 4.5 to 5.5 V; Isolation Rating (Input-Output, kVrms): 5; Max. Prop. Delay (ns): 60; Overlap Protection & Dead Time Control: TRUE; UVLO Voltage: 8 V; DatasheetVersion: Rev. 1.4; PackageReference: SOIC-16-WB; PackageDescription: 16-Pin Wide Body Plastic Small Outline, Body 10.3 x 7.5 mm, Pitch 1.27 mm; Supplier 1: Digi-Key; Supplier Part Number 1: 336-1900-5-ND; Supplier 2: Mouser; Supplier Part Number 2: 634-SI8234BD-C-IS; Driver Supply: 6.5 to 24 V; Input VDD: 4.5 to 5.5 V; Sub-Family: ISOdrivers; Mounting Technology: Surface Mount; Code_JEDEC: MS-013; ComponentLink1Description: Manufacturer URL; ComponentLink1URL: http://www.silabs.com/; ComponentLink2Description: Datasheet; ComponentLink2URL: https://www.silabs.com/Support%20Documents/TechnicalDocs/Si823x.pdf; ComponentLink3Description: Package Specification; ComponentLink3URL: https://www.silabs.com/Support%20Documents/TechnicalDocs/Si823x.pdf
footprint SLAB-SOIC-16-WB_N (SOIC, 16-Leads, Body 10.3x7.5mm, Pitch 1.27mm, IPC Medium Density)
footprint SLAB-SOIC-16-WB_L (SOIC, 16-Leads, Body 10.3x7.5mm, Pitch 1.27mm, IPC High Density)
footprint SLAB-SOIC-16-WB_M (SOIC, 16-Leads, Body 10.3x7.5mm, Pitch 1.27mm, IPC Low Density)
part A pins: 1 PWM (in) "PWM input.", 3 VDDI (power) "Input-side power supply terminal; connect to a source of 4.5 to 5.5 V.", 4 GNDI (power) "Input-side ground terminal.", 5 DISABLE (in) "Device Disable. When high, this input unconditionally drives outputs VOA, VOB LOW. It is strongly recommended that this input be connected to external logic level to avoid erroneous operation due to capacitive noise coupling.", 6 DT (in) "Dead time programming input. The value of the resistor connected from DT to ground sets the dead time between output transitions of VOA and VOB. Defaults to 1 ns dead time when connected to VDDI or left open (see "3.8. (See Datasheet)", 8 VDDI (power) "Input-side power supply terminal; connect to a source of 4.5 to 5.5 V.", 9 GNDB (power) "Ground terminal for Driver B.", 10 VOB (out) "Driver B output (low-side driver).", 11 VDDB (power) "Driver B power supply voltage terminal; connect to a source of 6.5 to 24 V.", 14 GNDA (power) "Ground terminal for Driver A.", 15 VOA (out) "Driver A output (high-side driver).", 16 VDDA (power) "Driver A power supply voltage terminal; connect to a source of 6.5 to 24 V."
part B pins: 2 NC "No connection.", 7 NC "No connection.", 12 NC "No connection.", 13 NC "No connection."